# Altium footprint library E2S-E2S-027-V3.PcbLib: 2 footprints
Each footprint in its own frame and in the unit in brackets; x right, y up, seen from the top. Pads: shape width x height; smd on the part's side, far side on the other; paste and mask are expansions set on the pad; w line width, h text height; cw(c..) or ccw(c..) is an arc to the next point about the centre after c.
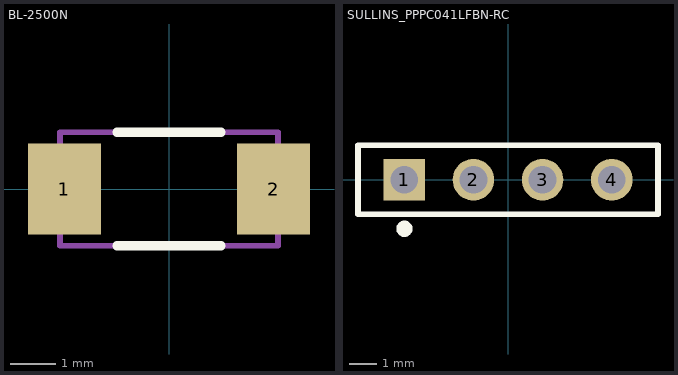
[diagram p0: the footprints below, top view; thin cyan lines are the x and y axes]

## BL-2500N [mm]
pads (2):
  rect 1.6x2 smd: 1(-2.3,0) 2(2.3,0)
Top Overlay:
  lines w0.203: -1.143,-1.25 1.143,-1.25 ; -1.143,1.25 1.143,1.25
Mechanical 1:
  text "'.Designator'" at 0,0 h1.52
Mechanical 15:
  lines w0.127: -2.4,-1.25 2.4,-1.25 2.4,1.25 -2.4,1.25 -2.4,-1.25
3D body: height 2, standoff 0, extent -2.4,-1.25 2.4,1.25

## SULLINS_PPPC041LFBN-RC [mm] "4 Position Header Connector  Through Hole"
height 8.5
pads (4):
  rect 1.528x1.528 hole 1.02: 1(-3.81,0)
  round 1.528 hole 1.02: 2(-1.27,0) 3(1.27,0) 4(3.81,0)
Top Overlay:
  circle w0.3: c-3.8,-1.8 r0.15
  lines w0.203: -5.505,-1.27 -5.505,1.27 5.505,1.27 5.505,-1.27 -5.505,-1.27
Mechanical 1:
  text "'.Designator'" at -1.27,0 h1.52
Mechanical 15:
  circle w0.127: c-3.81,0 r0.3
  lines w0.127: -5.505,-1.27 -5.505,1.27 5.505,1.27 5.505,-1.27 -5.505,-1.27
3D body "_ _ _C041LFBN-RC.STEP": height 8.5, standoff -3.2, extent -5.33,-1.27 5.33,1.27